# Altium schematic symbol library UCPD_resistors.SchLib: 8 symbols
Pins are listed as number, name and electrical type; pins without a type are passive.

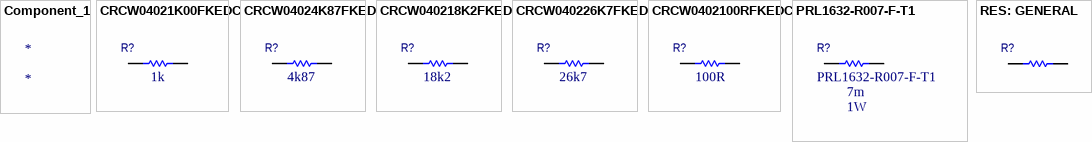
[diagram p0: symbols Component_1 to RES: GENERAL]

## Component_1
designator *

## CRCW04021K00FKEDC
designator R?  value 1k  (hidden comment: CRCW04021K00FKEDC)
RES SMD 1K OHM 1% 1/16W 0402; Manufacturer: Vishay Dale; Power: 0.063W; Accuracy: 1%; Manufacturer Part Number: CRCW04021K00FKEDC; Supplier Part Number 1: 541-3961-1-ND; Type: *; Supplier 1: Digi-Key; Package: 0402
footprint RESC0603X03N (Chip Resistor, 2-Leads, Body 0.60x0.30mm, IPC Medium Density (0201))
footprint RESC1005X03N (Chip Resistor, 2-Leads, Body 1.00x0.50mm, IPC Medium Density)
footprint RESC1608X06N (Chip Resistor, 2-Leads, Body 1.60x0.85mm, IPC Medium Density)
footprint RESC2012X07N (Chip Resistor, 2-Leads, Body 2.00x1.25mm, IPC Medium Density)
pins: 1, 2

## CRCW04024K87FKED
designator R?  value 4k87  (hidden comment: CRCW04024K87FKED)
RES SMD 4.87K OHM 1% 1/16W 0402; Manufacturer: Vishay Dale; Power: .063W; Accuracy: 1%; Manufacturer Part Number: CRCW04024K87FKED; Supplier Part Number 1: 541-4.87KLCT-ND; Type: *; Supplier 1: Digi-Key; Package: 0402
footprint RESC0603X03N (Chip Resistor, 2-Leads, Body 0.60x0.30mm, IPC Medium Density (0201))
footprint RESC1005X03N (Chip Resistor, 2-Leads, Body 1.00x0.50mm, IPC Medium Density)
footprint RESC1608X06N (Chip Resistor, 2-Leads, Body 1.60x0.85mm, IPC Medium Density)
footprint RESC2012X07N (Chip Resistor, 2-Leads, Body 2.00x1.25mm, IPC Medium Density)
pins: 1, 2

## CRCW040218K2FKED
designator R?  value 18k2  (hidden comment: CRCW040218K2FKED)
RES SMD 18.2K OHM 1% 1/16W 0402; Manufacturer: Vishay Dale; Power: 0.063W; Accuracy: 1%; Manufacturer Part Number: CRCW040218K2FKED; Supplier Part Number 1: 541-18.2KLCT-ND; Type: *; Supplier 1: Digi-Key; Package: 0402
footprint RESC0603X03N (Chip Resistor, 2-Leads, Body 0.60x0.30mm, IPC Medium Density (0201))
footprint RESC1005X03N (Chip Resistor, 2-Leads, Body 1.00x0.50mm, IPC Medium Density)
footprint RESC1608X06N (Chip Resistor, 2-Leads, Body 1.60x0.85mm, IPC Medium Density)
footprint RESC2012X07N (Chip Resistor, 2-Leads, Body 2.00x1.25mm, IPC Medium Density)
pins: 1, 2

## CRCW040226K7FKED
designator R?  value 26k7  (hidden comment: CRCW040226K7FKED)
RES SMD 26.7K OHM 1% 1/16W 0402; Manufacturer: Vishay Dale; Power: .063W; Accuracy: 1%; Manufacturer Part Number: CRCW040226K7FKED; Supplier Part Number 1: 541-26.7KLCT-ND; Type: *; Supplier 1: Digi-Key; Package: 0402
footprint RESC0603X03N (Chip Resistor, 2-Leads, Body 0.60x0.30mm, IPC Medium Density (0201))
footprint RESC1005X03N (Chip Resistor, 2-Leads, Body 1.00x0.50mm, IPC Medium Density)
footprint RESC1608X06N (Chip Resistor, 2-Leads, Body 1.60x0.85mm, IPC Medium Density)
footprint RESC2012X07N (Chip Resistor, 2-Leads, Body 2.00x1.25mm, IPC Medium Density)
pins: 1, 2

## CRCW0402100RFKEDC
designator R?  value 100R  (hidden comment: CRCW0402100RFKEDC)
RES SMD 100 OHM 1% 1/16W 0402; Manufacturer: Vishay Dale; Power: 0.63W; Accuracy: 1%; Manufacturer Part Number: CRCW0402100RFKEDC; Supplier Part Number 1: 541-3962-1-ND; Type: *; Supplier 1: Digi-Key; Package: 0402
footprint RESC0603X03N (Chip Resistor, 2-Leads, Body 0.60x0.30mm, IPC Medium Density (0201))
footprint RESC1005X03N (Chip Resistor, 2-Leads, Body 1.00x0.50mm, IPC Medium Density)
footprint RESC1608X06N (Chip Resistor, 2-Leads, Body 1.60x0.85mm, IPC Medium Density)
footprint RESC2012X07N (Chip Resistor, 2-Leads, Body 2.00x1.25mm, IPC Medium Density)
pins: 1, 2

## PRL1632-R007-F-T1
designator R?  value 7m  Power: 1W  (hidden comment: PRL1632-R007-F-T1)
RES 0.007 OHM 1W 1206 WIDE; Manufacturer: Susumu; Accuracy: 1%; Type: *; Supplier 1: Digi-Key; Package: 1206(3216m); Supplier Part Number 1: PRL1632.007FCT-ND; Manufacturer Part Number: PRL1632-R007-F-T1
footprint RESC0603X03N (Chip Resistor, 2-Leads, Body 0.60x0.30mm, IPC Medium Density (0201))
footprint RESC1005X03N (Chip Resistor, 2-Leads, Body 1.00x0.50mm, IPC Medium Density)
footprint RESC1608X06N (Chip Resistor, 2-Leads, Body 1.60x0.85mm, IPC Medium Density)
footprint RESC2012X07N (Chip Resistor, 2-Leads, Body 2.00x1.25mm, IPC Medium Density)
footprint RESC1632X60N
pins: 1, 2

## RES: GENERAL
designator R?
Resistor: General; Value: *; Accuracy: *; Manufacturer: *; Manufacturer Part Number: *; Supplier Part Number 1: *; Power: *; Type: *; Supplier 1: Digi-Key; Package: *
footprint RESC0603X03N (Chip Resistor, 2-Leads, Body 0.60x0.30mm, IPC Medium Density (0201))
footprint RESC1005X03N (Chip Resistor, 2-Leads, Body 1.00x0.50mm, IPC Medium Density)
footprint RESC1608X06N (Chip Resistor, 2-Leads, Body 1.60x0.85mm, IPC Medium Density)
footprint RESC2012X07N (Chip Resistor, 2-Leads, Body 2.00x1.25mm, IPC Medium Density)
pins: 1, 2